# Altium footprint library 晶振封装库.PcbLib: 82 footprints (part 5 of 6)
Each footprint in its own frame and in the unit in brackets; x right, y up, seen from the top. Pads: shape width x height; smd on the part's side, far side on the other; paste and mask are expansions set on the pad; w line width, h text height; cw(c..) or ccw(c..) is an arc to the next point about the centre after c.
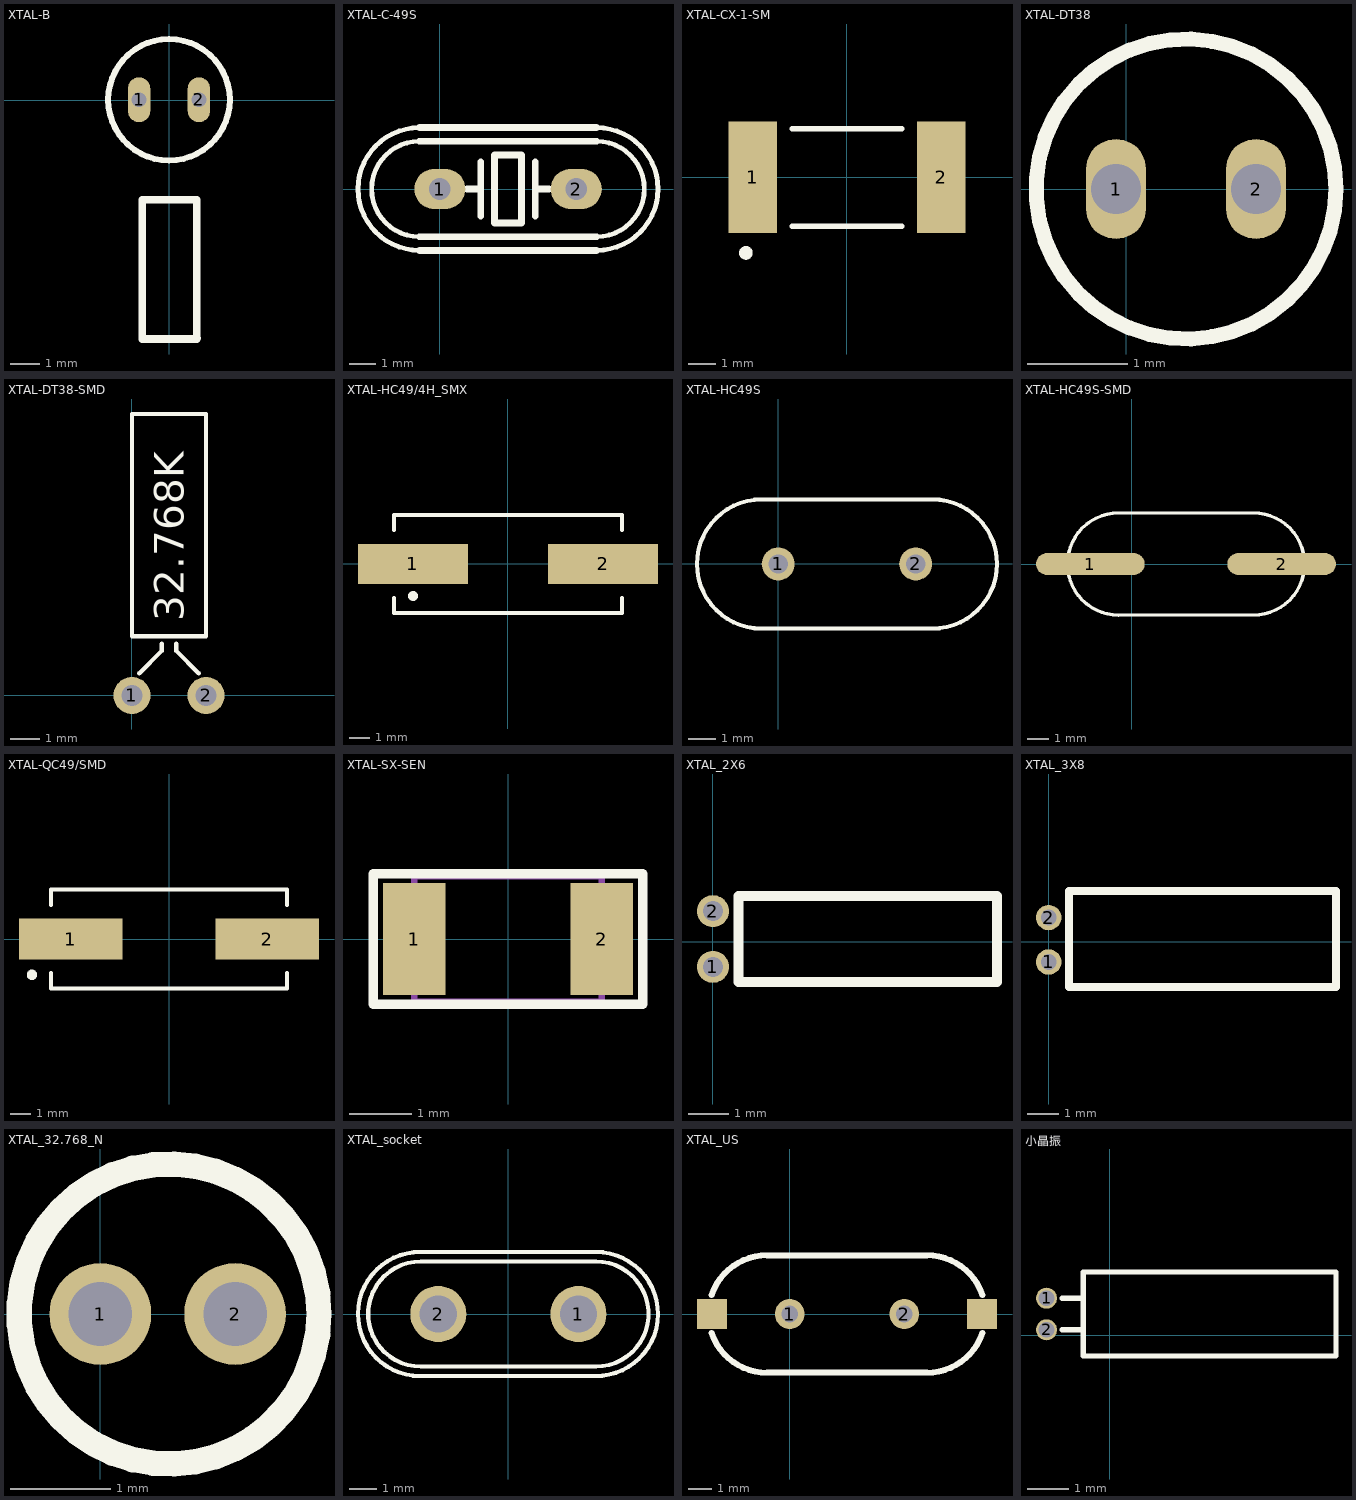
[diagram p4: the footprints below, top view; thin cyan lines are the x and y axes]

## XTAL-B [mm]
pads (2):
  oval 0.75x1.5 hole 0.5: 1(-1.011,0.008) 2(0.989,0.008)
Top Overlay:
  circle w0.2: c-0.011,0.008 r2.032
  lines w0.254: 0.939,-7.967 0.914,-7.992 ; 0.914,-7.992 -0.911,-7.992 -0.911,-3.342 0.914,-3.342 0.914,-7.992

## XTAL-C-49S [mm]
pads (2):
  oval 1.905x1.5 hole 0.813: 1(0,0) 2(5.08,0)
Top Overlay:
  lines w0.178: -0.762,-2.286 cw(c-0.762,0) -0.762,2.286 ; -0.762,-1.778 cw(c-0.762,0) -0.762,1.778 ; 5.842,-2.286 ccw(c5.842,0) 5.842,2.286 ; 5.842,-1.778 ccw(c5.842,0) 5.842,1.778
  lines w0.254: -0.762,-2.286 5.842,-2.286 ; -0.762,-1.778 5.842,-1.778 ; -0.762,1.778 5.842,1.778 ; -0.762,2.286 5.842,2.286 ; 1.016,0 1.524,0 ; 1.524,-1.016 1.524,1.016 ; 3.556,-1.016 3.556,1.016 ; 3.556,0 4.064,0 ; 2.032,-1.27 2.032,1.27 3.048,1.27 3.048,-1.27 2.032,-1.27
3D body "hc-49s_y.stp": height 3.5, standoff -3, extent -2.848,-2.255 7.952,2.245

## XTAL-CX-1-SM [mm]
pads (2):
  rect 1.78x4.06 smd: 1(-3.43,0) 2(3.43,0)
Top Overlay:
  circle w0.25: c-3.681,-2.747 r0.125
  lines w0.2: -2,-1.78 2,-1.78 ; -2,1.78 2,1.78

## XTAL-DT38 [mm]
pads (2):
  oval 0.6x1 hole 0.5: 1(-0.1,0) 2(1.3,0)
Top Overlay:
  circle w0.15: c0.6,0 r1.5
3D body "User Library-TC38.step": height 6.5, standoff -1.8, extent -0.55,-1 1.75,1

## XTAL-DT38-SMD [mil]
pads (2):
  round 50 hole 28: 1(0,0) 2(100,0)
Top Overlay:
  lines w5.91: 10,30 40,60 40,70 ; 60,70 60,60 90,30 ; 0,80 0,380 100,380 100,80 0,80
  text "32.768K" at 70,100 h40
3D body "User Library-TC38 SMD.step": height 78.74, standoff -9.84, extent -4.92,-1.18 104.92,372.83

## XTAL-HC49/4H_SMX [mm]
pads (2):
  rect 5.5x2 smd: 1(-4.75,0) 2(4.75,0)
Top Overlay:
  circle w0.25: c-4.75,-1.6 r0.125
  lines w0.2: -5.7,-1.7 -5.7,-2.45 5.7,-2.45 5.7,-1.7 ; -5.7,1.7 -5.7,2.45 5.7,2.45 5.7,1.7

## XTAL-HC49S [mm]
pads (2):
  round 1.2 hole 0.7: 1(0,0) 2(5,0)
Top Overlay:
  lines w0.15: -0.606,-2.352 5.603,-2.35 ; -0.602,-2.352 cw(c-0.602,-0.002) -0.602,2.348 ; -0.6,2.349 5.602,2.35 ; 5.604,-2.35 ccw(c5.604,0) 5.604,2.35
3D body "User Library-HP49US.step": height 3.5, standoff -4, extent -3.175,-2.325 8.175,2.325

## XTAL-HC49S-SMD [mm]
pads (2):
  oval 5x1 smd: 1(-1.9,0) 2(6.9,0)
Top Overlay:
  lines w0.15: -0.606,-2.352 5.603,-2.35 ; -0.602,-2.352 cw(c-0.602,-0.002) -0.602,2.348 ; -0.6,2.349 5.602,2.35 ; 5.604,-2.35 ccw(c5.604,0) 5.604,2.35
3D body "User Library-SMU4.STEP": height 4.02, standoff 0.02, extent -3.749,-2.4 8.751,2.4

## XTAL-QC49/SMD [mm]
pads (2):
  rect 5x2 smd: 1(-4.75,0) 2(4.75,0)
Top Overlay:
  circle w0.25: c-6.625,-1.73 r0.125
  lines w0.2: -5.7,-1.65 -5.7,-2.4 5.7,-2.4 5.7,-1.65 ; -5.7,1.65 -5.7,2.4 5.7,2.4 5.7,1.65
3D body "User Library-hc49_cystal.STEP": height 4, standoff 0, extent -6.7,-2.462 6.7,2.438

## XTAL-SX-SEN [mm]
height 0.051
pads (2):
  rect 1x1.8 smd: 1(-1.5,0) 2(1.5,0)
Top Overlay:
  lines w0.152: -2.159,-1.041 2.159,-1.041 2.159,1.041 -2.159,1.041 -2.159,-1.041
Mechanical 13:
  lines w0.1: -1.5,-1 1.5,-1 1.5,1 -1.5,1 -1.5,-1
3D body "CSX-SEN.STEP": height 1.8, standoff 0, extent -1.5,-0.9 1.5,0.9

## XTAL_2X6 [mm]
pads (2):
  round 0.8 hole 0.5: 1(0,-0.635) 2(0,0.762)
Top Overlay:
  lines w0.254: 0.635,-1.016 0.635,1.143 7.112,1.143 7.112,-1.016 0.635,-1.016
3D body: height 2, standoff 0, extent 0.912,-0.94 6.912,1.052

## XTAL_3X8 [mm]
pads (2):
  round 0.8 hole 0.5: 1(0,-0.635) 2(0,0.762)
Top Overlay:
  lines w0.254: 0.635,-1.422 9.042,-1.422 9.042,1.6 0.635,1.6 0.635,-1.422
3D body: height 3, standoff 0, extent 0.912,-1.436 8.912,1.552

## XTAL_32.768_N [mil] "32.768k柱式晶振（未加焊）"
height 314.96
pads (2):
  round 40 hole 25: 1(0,0) 2(53,0)
Top Overlay:
  circle w10: c27,0 r59
3D body "CRYSTAL_N.stp": height 354.33, standoff -118.11, extent -32.87,-59.06 85.24,59.06

## XTAL_socket [mil]
pads (2):
  round 80 hole 53: 1(100,0) 2(-100,0)
Top Overlay:
  lines w6: -126,-88.58 cw(c-126,0) -125.09,88.58 125,88.58 cw(c125,0) 124.07,-88.58 -126,-88.58 ; -125,-75 cw(c-125,0) -125,75 125,75 cw(c125,0) 125,-75 -125,-75

## XTAL_US [mil]
pads (4):
  round 50 hole 28: 1(0,0) 2(192.13,0)
  rect 50x50 smd: ""(-130.32,0) ""(322.44,0)
Top Overlay:
  lines w10: -130.92,-31.85 ccw(c-37.79,0) -37.79,-98.42 ; -130.92,31.85 cw(c-37.79,0) -37.79,98.43 ; -38,98.42 229.92,98.43 cw(c229.92,0) 323.05,31.85 ; -37.8,-98.43 229.92,-98.42 ccw(c229.92,0) 323.05,-31.85

## 小晶振 [mil]
pads (2):
  round 20 hole 15: 1(-60,35) 2(-60,5)
Top Overlay:
  lines w5: -45,5 -25,5 ; -45,35 -25,35 ; -25,-20 215,-20 215,60 -25,60 -25,-20
3D body "User Library-DT-26.step": height 79.37, standoff -78.11, extent -65.55,-18.74 215.55,60